# EAGLE library part 10DP- (library Chips)
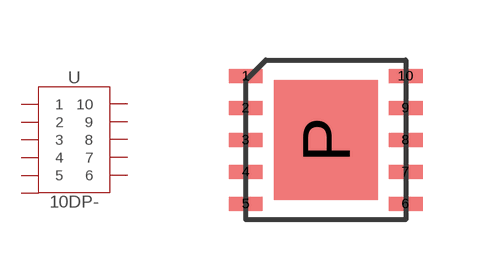
[diagram p24: symbol with the pads of 10WSON_P; footprint 10WSON_P]

Designator prefix -

## 10DP-WSON  [10WSON_P]
1  1
2  2
3  3
4  4
5  5
6  6
7  7
8  8
9  9
10  10
P  P

## Footprint 10WSON_P (pad centres in mm)
smd 0.85 x 0.35: 1 -2,1.6; 2 -2,0.8; 3 -2,0; 4 -2,-0.8; 5 -2,-1.6; 6 2,-1.6; 7 2,-0.8; 8 2,0; 9 2,0.8; 10 2,1.6
smd 2.6 x 3: P 0,0